# Altium footprint library RX.PcbLib: 18 footprints (part 2 of 2)
Each footprint in its own frame and in the unit in brackets; x right, y up, seen from the top. Pads: shape width x height; smd on the part's side, far side on the other; paste and mask are expansions set on the pad; w line width, h text height; cw(c..) or ccw(c..) is an arc to the next point about the centre after c.
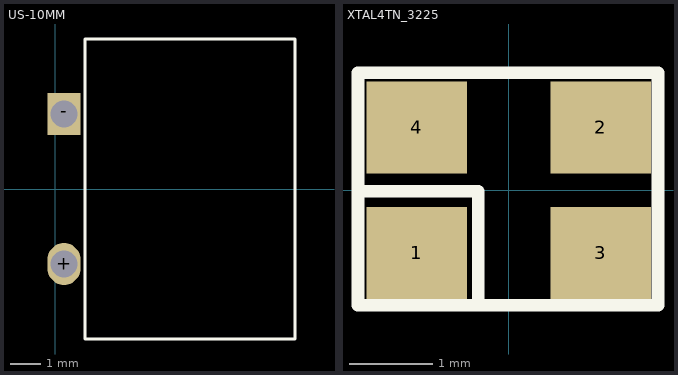
[diagram p1: the footprints below, top view; thin cyan lines are the x and y axes]

## US-10MM [mm]
pads (2):
  oval 1.1x1.4 hole 0.9: +(0.3,-2.5)
  rect 1.1x1.4 hole 0.9: -(0.3,2.5)
Top Overlay:
  lines w0.1: 1,-5 1,5 8,5 8,-5 1,-5

## XTAL4TN_3225 [mm]
height 1.4
pads (4):
  rect 1.2x1.1 smd: 1(-1.1,-0.75) 2(1.1,0.75) 3(1.1,-0.75) 4(-1.1,0.75)
Top Overlay:
  lines w0.15: -1.749,-0.012 -0.363,-0.012 ; -0.363,-1.333 -0.363,-0.022 ; -1.8,-1.376 1.786,-1.376 1.786,1.4 -1.8,1.4 -1.8,-1.376